# Altium footprint library Miscellaneous Devices.PcbLib: 177 footprints (part 3 of 12)
Each footprint in its own frame and in the unit in brackets; x right, y up, seen from the top. Pads: shape width x height; smd on the part's side, far side on the other; paste and mask are expansions set on the pad; w line width, h text height; cw(c..) or ccw(c..) is an arc to the next point about the centre after c.
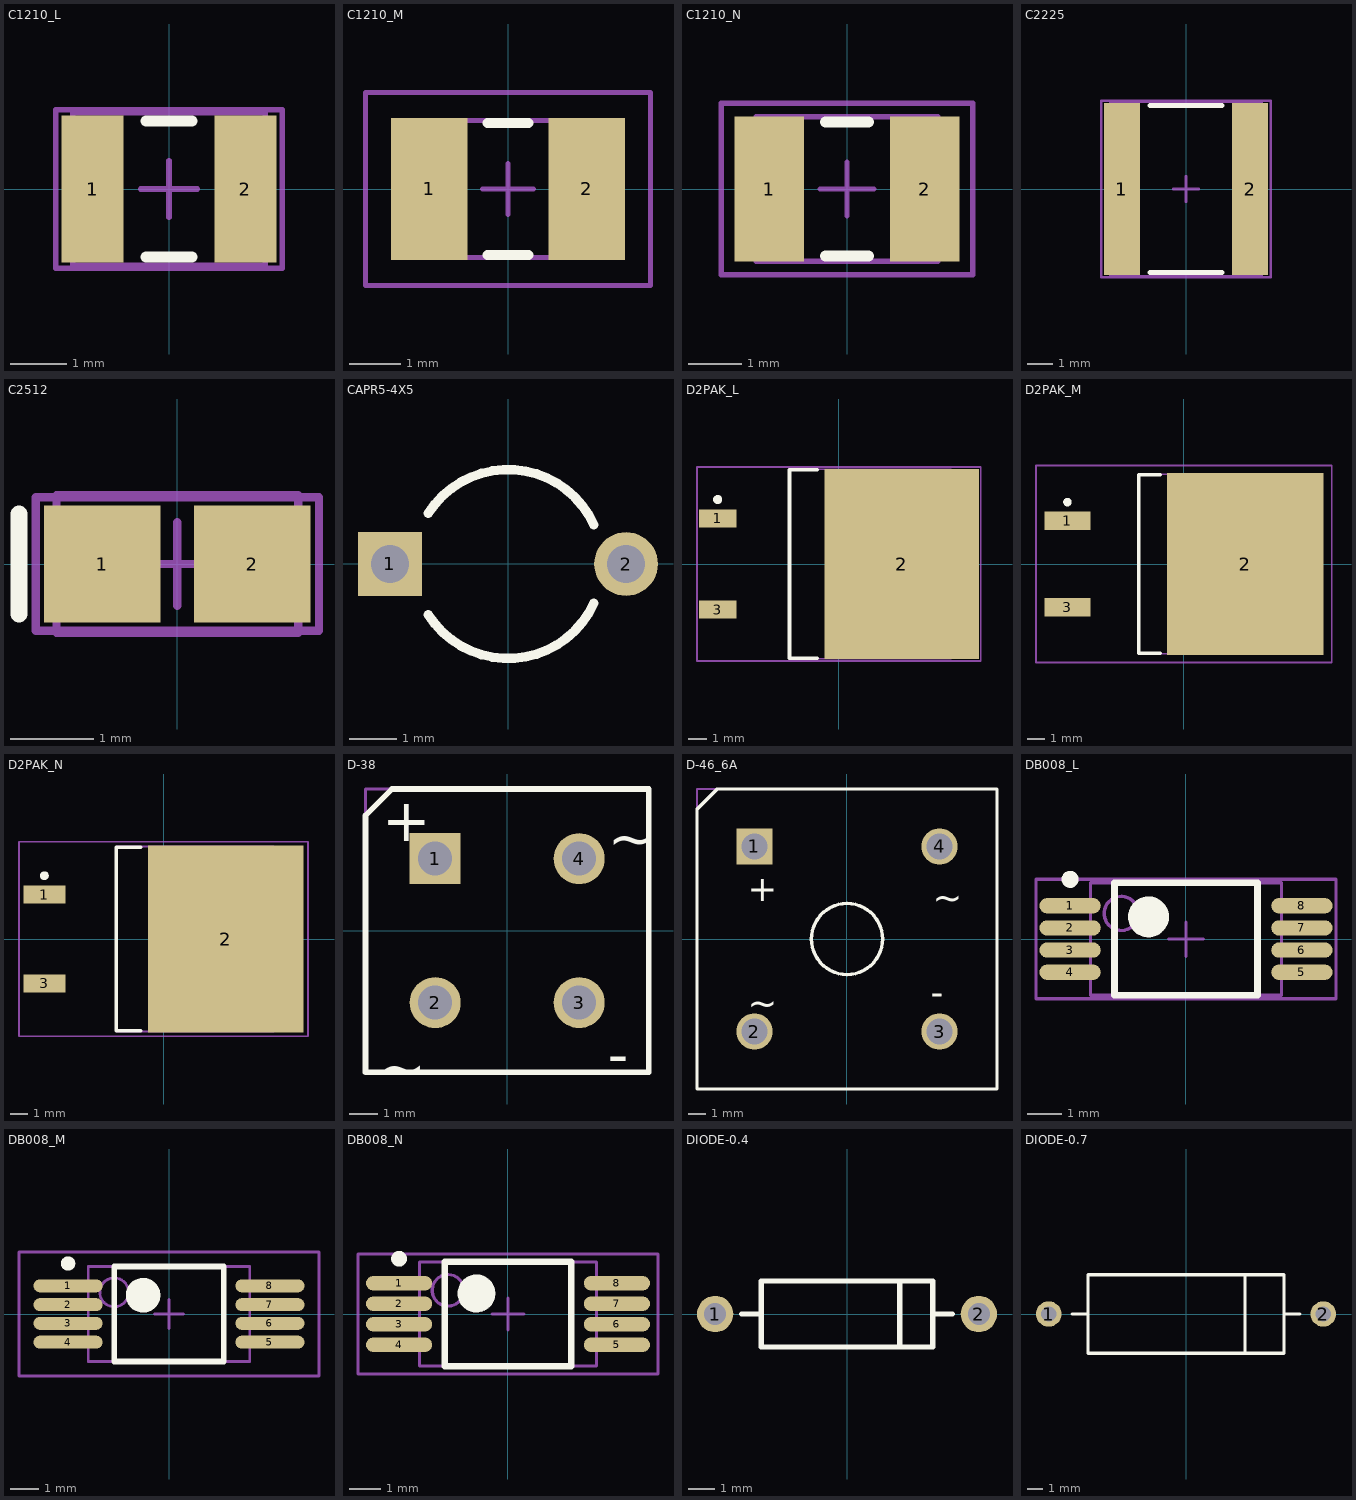
[diagram p2: the footprints below, top view; thin cyan lines are the x and y axes]

## C1210_L [mm] "Chip Capacitor, Body 3.2x2.5mm, IPC High Density"
height 1.5
pads (2):
  rect 1.1x2.6 smd: 1(-1.35,0) 2(1.35,0)
Top Overlay:
  lines w0.2: -0.4,-1.2 0.4,-1.2 ; -0.4,1.2 0.4,1.2
Mechanical 13:
  lines w0.1: -1.7,-1.35 -1.7,1.35 1.7,1.35 1.7,-1.35 -1.7,-1.35
Mechanical 15:
  lines w0.1: -0.5,0 0.5,0 ; 0,-0.5 0,0.5 ; -2,-1.4 -2,1.4 2,1.4 2,-1.4 -2,-1.4
3D body: height 1.5, standoff 0, extent -1.7,-1.35 1.7,1.35

## C1210_M [mm] "Chip Capacitor, Body 3.2x2.5mm, IPC Low Density"
height 1.5
pads (2):
  rect 1.5x2.8 smd: 1(-1.55,0) 2(1.55,0)
Top Overlay:
  lines w0.2: -0.4,-1.3 0.4,-1.3 ; -0.4,1.3 0.4,1.3
Mechanical 13:
  lines w0.1: -1.7,-1.35 -1.7,1.35 1.7,1.35 1.7,-1.35 -1.7,-1.35
Mechanical 15:
  lines w0.1: -0.5,0 0.5,0 ; 0,-0.5 0,0.5 ; -2.8,-1.9 -2.8,1.9 2.8,1.9 2.8,-1.9 -2.8,-1.9
3D body: height 1.5, standoff 0, extent -1.7,-1.35 1.7,1.35

## C1210_N [mm] "Chip Capacitor, Body 3.2x2.5mm, IPC Medium Density"
height 1.5
pads (2):
  rect 1.3x2.7 smd: 1(-1.45,0) 2(1.45,0)
Top Overlay:
  lines w0.2: -0.4,-1.25 0.4,-1.25 ; -0.4,1.25 0.4,1.25
Mechanical 13:
  lines w0.1: -1.7,-1.35 -1.7,1.35 1.7,1.35 1.7,-1.35 -1.7,-1.35
Mechanical 15:
  lines w0.1: -0.5,0 0.5,0 ; 0,-0.5 0,0.5 ; -2.35,-1.6 -2.35,1.6 2.35,1.6 2.35,-1.6 -2.35,-1.6
3D body: height 1.5, standoff 0, extent -1.7,-1.35 1.7,1.35

## C2225 [mm] "Chip Capacitor, Body 5.7x6.4mm, IPC High Density"
height 1.4
pads (2):
  rect 1.4x6.7 smd: 1(-2.5,0) 2(2.5,0)
Top Overlay:
  lines w0.2: -1.4,-3.25 1.4,-3.25 ; -1.4,3.25 1.4,3.25
Mechanical 13:
  lines w0.1: -2.95,-3.4 -2.95,3.4 2.95,3.4 2.95,-3.4 -2.95,-3.4
Mechanical 15:
  lines w0.1: -0.5,0 0.5,0 ; 0,-0.5 0,0.5 ; -3.3,-3.45 -3.3,3.45 3.3,3.45 3.3,-3.45 -3.3,-3.45
3D body: height 1.4, standoff 0, extent -2.95,-3.4 2.95,3.4

## C2512 [mm] "Chip Capacitor, Body 2.54x1.27mm, IPC High Density"
height 1.3
pads (2):
  rect 1.4x1.4 smd: 1(-0.9,0) 2(0.9,0)
Top Overlay:
  lines w0.2: -1.9,-0.6 -1.9,0.6
Mechanical 13:
  lines w0.1: -1.45,-0.825 1.45,-0.825 1.45,0.825 -1.45,0.825 -1.45,-0.825
Mechanical 15:
  lines w0.1: -0.5,0 0.5,0 ; 0,-0.5 0,0.5 ; -1.7,-0.8 1.7,-0.8 1.7,0.8 -1.7,0.8 -1.7,-0.8
3D body: height 1.3, standoff 0, extent -1.45,-0.825 1.45,0.825

## CAPR5-4X5 [mm] "Capacitor; 2 Leads"
height 12
pads (2):
  rect 1.35x1.35 hole 0.8: 1(-2.5,0)
  round 1.35 hole 0.8: 2(2.5,0)
Top Overlay:
  lines w0.2: -1.687,-1.075 ccw(c0,0) 1.819,-0.832 ; -1.687,1.075 cw(c0,0) 1.819,0.832

## D2PAK_L [mm] "D2-PAK, 4-Leads, Body 8.8x10.4mm, Pitch 2.54mm, Lead Span 15.1mm, IPC High Density"
height 4.69
pads (3):
  rect 2.1x1 smd: 1(-6.75,2.54) 3(-6.75,-2.54)
  rect 8.6x10.6 smd: 2(3.5,0)
Top Overlay:
  circle w0.25: c-6.75,3.59 r0.125
  lines w0.2: -1.2,-5.25 -2.75,-5.25 -2.75,5.25 -1.2,5.25
Mechanical 13:
  lines w0.1: -2.75,-5.275 -2.75,5.275 6.25,5.275 6.25,-5.275 -2.75,-5.275
Mechanical 15:
  lines w0.1: -0.5,0 0.5,0 ; 0,-0.5 0,0.5 ; -7.9,-5.4 -7.9,5.4 7.9,5.4 7.9,-5.4 -7.9,-5.4
3D body: height 4.69, standoff 0, extent -2.75,-5.275 6.25,5.275

## D2PAK_M [mm] "D2-PAK, 4-Leads, Body 8.8x10.4mm, Pitch 2.54mm, Lead Span 15.1mm, IPC Low Density"
height 4.69
pads (3):
  rect 2.7x1.1 smd: 1(-6.85,2.54) 3(-6.85,-2.54)
  rect 9.2x10.7 smd: 2(3.6,0)
Top Overlay:
  circle w0.25: c-6.85,3.64 r0.125
  lines w0.2: -1.4,-5.25 -2.65,-5.25 -2.65,5.25 -1.4,5.25
Mechanical 13:
  lines w0.1: -2.65,-5.275 6.35,-5.275 6.35,5.275 -2.65,5.275 -2.65,-5.275
Mechanical 15:
  lines w0.1: -0.5,0 0.5,0 ; 0,-0.5 0,0.5 ; -8.7,-5.8 8.7,-5.8 8.7,5.8 -8.7,5.8 -8.7,-5.8
3D body: height 4.69, standoff 0, extent -2.65,-5.275 6.35,5.275

## D2PAK_N [mm] "D2-PAK, 4-Leads, Body 8.8x10.4mm, Pitch 2.54mm, Lead Span 15.1mm, IPC Medium Density"
height 4.69
pads (3):
  rect 2.4x1.05 smd: 1(-6.8,2.54) 3(-6.8,-2.54)
  rect 8.9x10.65 smd: 2(3.55,0)
Top Overlay:
  circle w0.25: c-6.8,3.615 r0.125
  lines w0.2: -1.3,-5.25 -2.7,-5.25 -2.7,5.25 -1.3,5.25
Mechanical 13:
  lines w0.1: -2.7,-5.275 6.3,-5.275 6.3,5.275 -2.7,5.275 -2.7,-5.275
Mechanical 15:
  lines w0.1: -0.5,0 0.5,0 ; 0,-0.5 0,0.5 ; -8.25,-5.55 8.25,-5.55 8.25,5.55 -8.25,5.55 -8.25,-5.55
3D body: height 4.69, standoff 0, extent -2.7,-5.275 6.3,5.275

## D-38 [mm] "Bridge Rectifier; 4 Terminals; Body 9.4 x 9.4 mm (typ); Pitch 5.08 mm"
height 9.91
pads (4):
  rect 1.8x1.8 hole 1.2: 1(-2.54,2.54)
  round 1.8 hole 1.2: 2(-2.54,-2.54) 3(2.54,-2.54) 4(2.54,2.54)
Top Overlay:
  lines w0.2: -5,-5 -5,4.064 -4.064,5 5,5 5,-5 -5,-5
  text "+" at -4.41,3.164 h1.5
  text "-" at 3.556,-5.08 h1.5
  text "~" at -4.572,-5.588 h1.5
  text "~" at 3.556,2.54 h1.5
Mechanical 13:
  lines w0.1: -5,-5 -5,5 5,5 5,-5 -5,-5
3D body: height 9.91, standoff 0, extent -5,-5 5,5

## D-46_6A [mm] "Bridge Rectifier; 4 Terminals; Body 16.8 x 16.8 mm (typ); Pitch 10.67 mm"
height 6.35
pads (4):
  rect 2.1x2.1 hole 1.5: 1(-5.335,5.335)
  round 2.1 hole 1.5: 2(-5.335,-5.335) 3(5.335,-5.335) 4(5.335,5.335)
Top Overlay:
  circle w0.2: c0,0 r2.05
  lines w0.2: -8.65,-8.65 -8.65,7.474 -7.474,8.65 8.65,8.65 8.65,-8.65 -8.65,-8.65
  text "+" at -5.723,2.167 h1.5
  text "-" at 4.825,-3.809 h1.5
  text "~" at 4.945,1.659 h1.5
  text "~" at -5.723,-4.437 h1.5
Mechanical 13:
  lines w0.1: -8.65,-8.65 8.65,-8.65 8.65,8.65 -8.65,8.65 -8.65,-8.65
3D body: height 6.35, standoff 0, extent -8.65,-8.65 8.65,8.65

## DB008_L [mm] "SOP, 8-Leads, Body 3x5.3mm, Pitch 0.65mm, IPC High Density"
height 2
pads (8):
  oval 1.8x0.45 smd: 1(-3.4,0.975) 2(-3.4,0.325) 3(-3.4,-0.325) 4(-3.4,-0.975) 5(3.4,-0.975) 6(3.4,-0.325) 7(3.4,0.325) 8(3.4,0.975)
Top Overlay:
  circle w0.25: c-3.4,1.75 r0.125
  circle w0.6: c-1.1,0.65 r0.3
  lines w0.2: -2.1,-1.65 -2.1,1.65 2.1,1.65 2.1,-1.65 -2.1,-1.65
Mechanical 13:
  circle w0.1: c-1.9,0.75 r0.5
  lines w0.1: -2.8,-1.65 -2.8,1.65 2.8,1.65 2.8,-1.65 -2.8,-1.65
Mechanical 15:
  lines w0.1: -0.5,0 0.5,0 ; 0,-0.5 0,0.5 ; -4.4,-1.75 -4.4,1.75 4.4,1.75 4.4,-1.75 -4.4,-1.75
3D body: height 2, standoff 0, extent -2.8,-1.65 2.8,1.65

## DB008_M [mm] "SOP, 8-Leads, Body 3x5.3mm, Pitch 0.65mm, IPC Low Density"
height 2
pads (8):
  oval 2.4x0.45 smd: 1(-3.5,0.975) 2(-3.5,0.325) 3(-3.5,-0.325) 4(-3.5,-0.975) 5(3.5,-0.975) 6(3.5,-0.325) 7(3.5,0.325) 8(3.5,0.975)
Top Overlay:
  circle w0.6: c-0.9,0.65 r0.3
  circle w0.25: c-3.5,1.75 r0.125
  lines w0.2: -1.9,-1.65 1.9,-1.65 1.9,1.65 -1.9,1.65 -1.9,-1.65
Mechanical 13:
  circle w0.1: c-1.9,0.75 r0.5
  lines w0.1: -2.8,-1.65 2.8,-1.65 2.8,1.65 -2.8,1.65 -2.8,-1.65
Mechanical 15:
  lines w0.1: -0.5,0 0.5,0 ; 0,-0.5 0,0.5 ; -5.2,-2.15 5.2,-2.15 5.2,2.15 -5.2,2.15 -5.2,-2.15
3D body: height 2, standoff 0, extent -2.8,-1.65 2.8,1.65

## DB008_N [mm] "SOP, 8-Leads, Body 3x5.3mm, Pitch 0.65mm, IPC Medium Density"
height 2
pads (8):
  oval 2.1x0.45 smd: 1(-3.45,0.975) 2(-3.45,0.325) 3(-3.45,-0.325) 4(-3.45,-0.975) 5(3.45,-0.975) 6(3.45,-0.325) 7(3.45,0.325) 8(3.45,0.975)
Top Overlay:
  circle w0.25: c-3.45,1.75 r0.125
  circle w0.6: c-1,0.65 r0.3
  lines w0.2: -2,-1.65 -2,1.65 2,1.65 2,-1.65 -2,-1.65
Mechanical 13:
  circle w0.1: c-1.9,0.75 r0.5
  lines w0.1: -2.8,-1.65 -2.8,1.65 2.8,1.65 2.8,-1.65 -2.8,-1.65
Mechanical 15:
  lines w0.1: -0.5,0 0.5,0 ; 0,-0.5 0,0.5 ; -4.75,-1.9 -4.75,1.9 4.75,1.9 4.75,-1.9 -4.75,-1.9
3D body: height 2, standoff 0, extent -2.8,-1.65 2.8,1.65

## DIODE-0.4 [mm] "Diode, Thru-Hole; 2 Leads; 0.4 in Pin Spacing"
height 2.54
pads (2):
  round 1.4 hole 0.85: 1(-5.08,0) 2(5.08,0)
Top Overlay:
  lines w0.2: -4.064,0 -3.302,0 ; 2.032,-1.27 2.032,1.27 ; 3.302,0 4.064,0 ; -3.302,-1.27 3.302,-1.27 3.302,1.27 -3.302,1.27 -3.302,-1.27

## DIODE-0.7 [mm] "Diode, Thru-Hole; 2 Leads; 0.7 in Pin Spacing"
height 5.08
pads (2):
  round 1.65 hole 1: 1(-8.89,0) 2(8.89,0)
Top Overlay:
  lines w0.2: -7.366,0 -6.35,0 ; 3.81,-2.54 3.81,2.54 ; 6.35,0 7.366,0 ; -6.35,-2.54 6.35,-2.54 6.35,2.54 -6.35,2.54 -6.35,-2.54